# EAGLE library part SN74LVC1T45 (library MyLibrary)
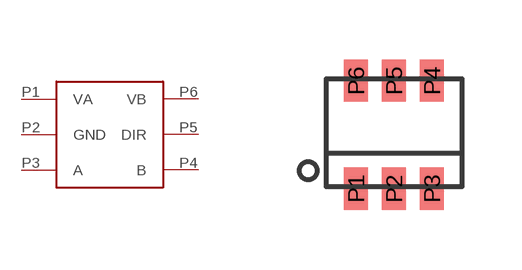
[diagram p1: symbol with the pads of DBV-R-PDSO-G6; footprint DBV-R-PDSO-G6]

Designator prefix -

## SN74LVC1T45  [DBV-R-PDSO-G6]
P1  VA
P2  GND
P3  A
P4  B
P5  DIR
P6  VB

## Footprint DBV-R-PDSO-G6 (pad centres in mm)
DBV (R-PDSO-G6) Plastic Small-Outline Package This is the package with 0.95mm pin pitch
smd 0.6 x 1.05: P1 -0.95,0; P2 0,0; P3 0.95,0; P4 0.95,2.7; P5 0,2.7; P6 -0.95,2.7